# Altium schematic symbol library SCH - POWER - MODULE - TRACO - TBA-2-0511.SCHLIB: 1 symbol
Pins are listed as number, name and electrical type; pins without a type are passive.

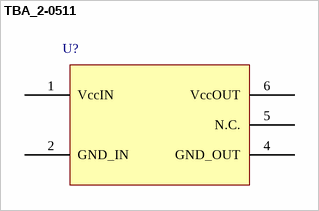
[diagram p0: symbol TBA_2-0511]

## TBA_2-0511
designator U?
5V/5V DC-DC Isolation Converter
pins: 1 VccIN (power), 2 GND_IN (power), 4 GND_OUT (power), 5 N.C., 6 VccOUT (power)